# Altium schematic symbol library sch.SchLib: 75 symbols
Pins are listed as number, name and electrical type; pins without a type are passive.

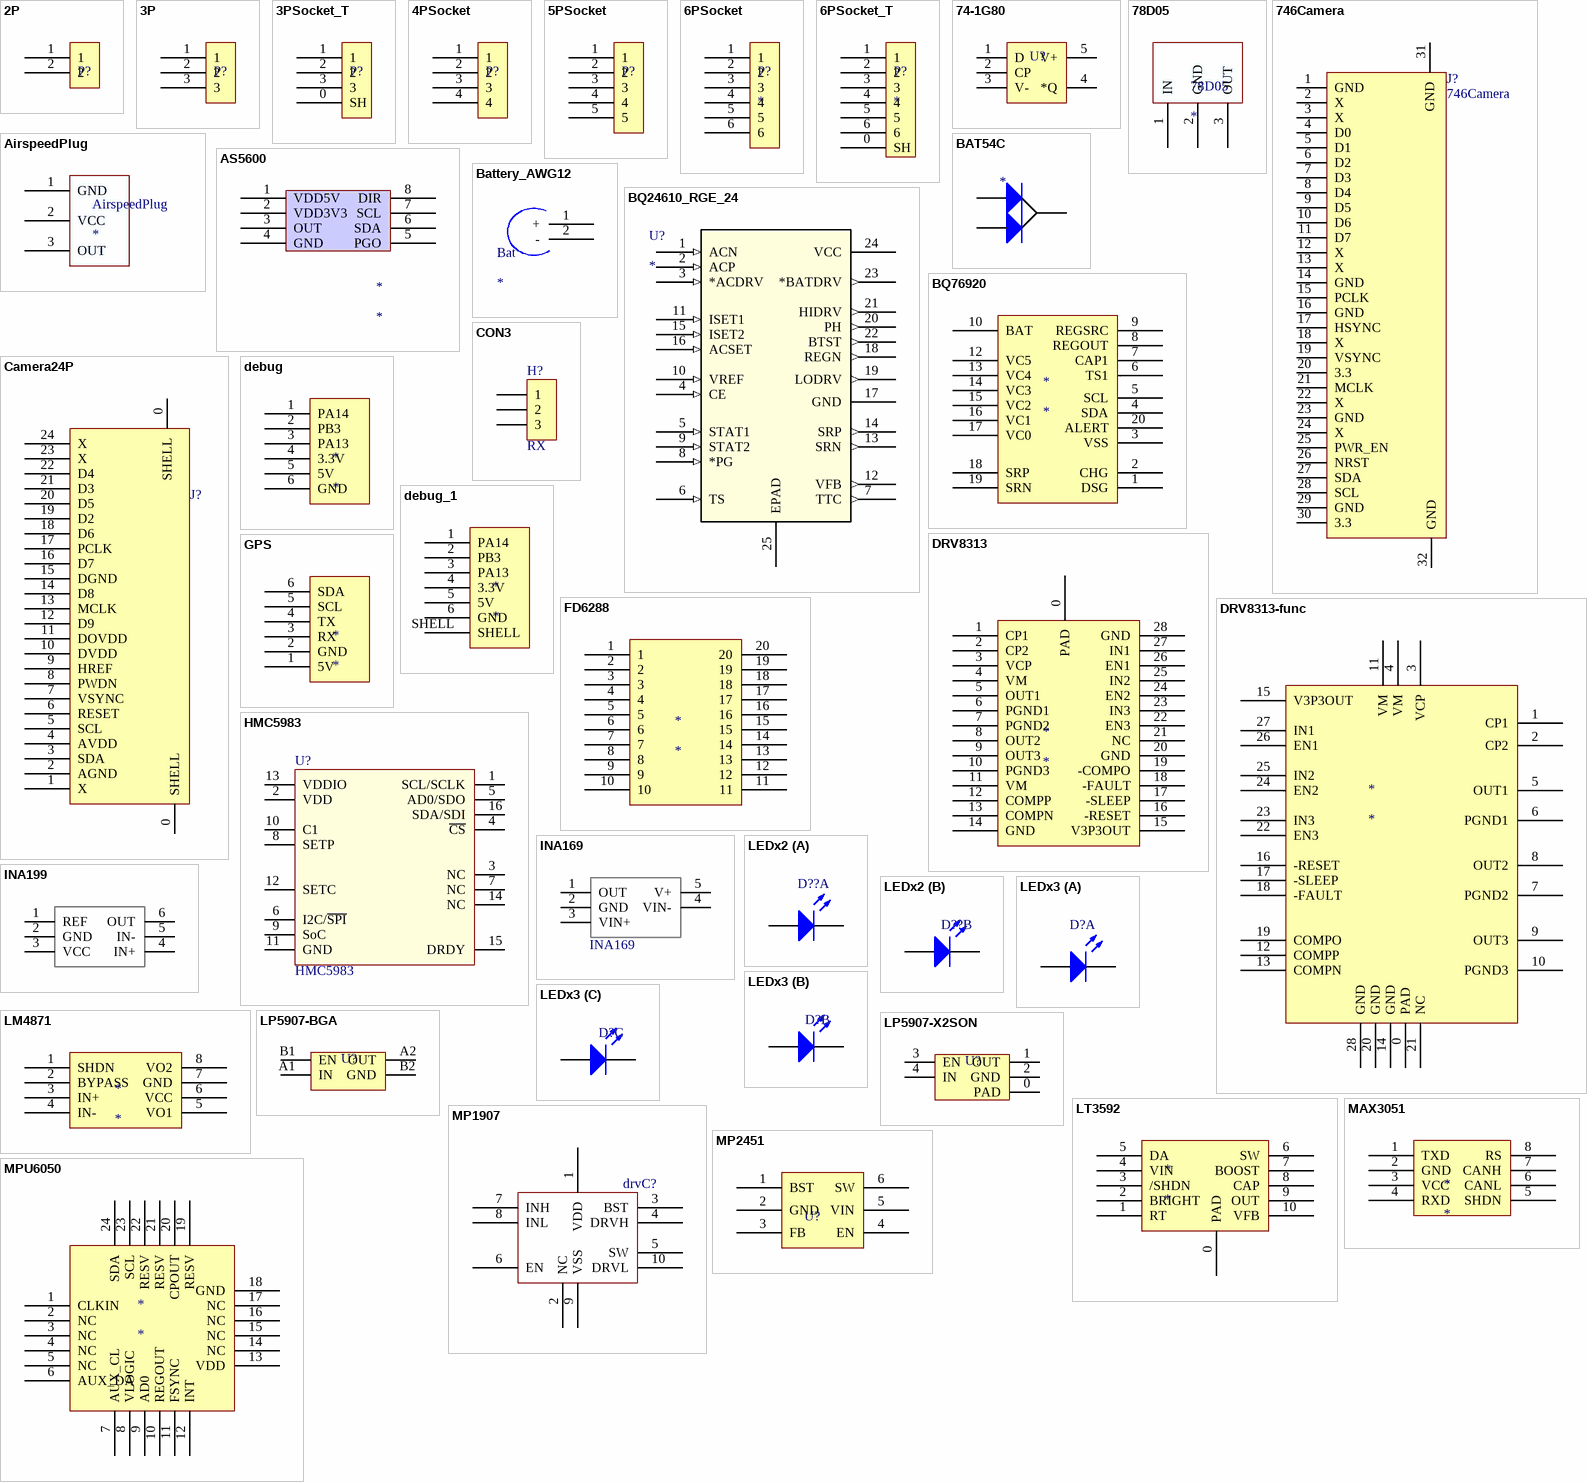
[diagram p0: symbols 2P to MPU6050]

## 2P
designator P?  (value not drawn)
footprint 2P
pins: 1, 2

## 3P
designator P?  (value not drawn)
footprint WFRSM125 - 3P
pins: 1, 2, 3

## 3PSocket_T
designator P?  (value not drawn)
footprint WFRSM125 - 3P
pins: 0 SH, 1, 2, 3

## 4PSocket
designator P?  (value not drawn)
footprint 4pSocket
pins: 1, 2, 3, 4

## 5PSocket
designator P?  (value not drawn)
footprint 5PSocket
pins: 1, 2, 3, 4, 5

## 6PSocket
designator P?
footprint 6PSocket
pins: 1, 2, 3, 4, 5, 6

## 6PSocket_T
designator P?
footprint WFRSM125 - 6P
pins: 0 SH, 1, 2, 3, 4, 5, 6

## 74-1G80
designator U?  (value not drawn)
footprint SOT23-5 (Footprint not found)
pins: 1 D, 2 CP, 3 V-, 4 *Q, 5 V+

## 78D05
designator 78D05
footprint TO-252-2L
pins: 1 IN, 2 GND, 3 OUT

## 746Camera
designator J?
footprint FFC/SM0.5-2H30
pins: 1 GND, 2 X, 3 X, 4 D0, 5 D1, 6 D2, 7 D3, 8 D4, 9 D5, 10 D6, 11 D7, 12 X, 13 X, 14 GND, 15 PCLK, 16 GND, 17 HSYNC, 18 X, 19 VSYNC, 20 3.3, 21 MCLK, 22 X, 23 GND, 24 X, 25 PWR_EN, 26 NRST, 27 SDA, 28 SCL, 29 GND, 30 3.3, 31 GND, 32 GND

## AirspeedPlug
designator AirspeedPlug
footprint ServoConnector
pins: 1 GND, 2 VCC, 3 OUT

## AS5600
designator *
footprint SOIC8_39MM
pins: 1 VDD5V, 2 VDD3V3, 3 OUT, 4 GND, 5 PGO, 6 SDA, 7 SCL, 8 DIR

## BAT54C
designator *  (value not drawn)
footprint SOT-23B_L (SOT23, 3-Leads, Body 2.9x1.3mm, Pitch 0.95mm, Lead Span 2.4mm, IPC High Density)
pins: 1 A, 2 A, 3 K

## Battery_AWG12
designator Bat
footprint Battery_AWG12
pins: 1 +, 2 -

## BQ24610_RGE_24
designator U?
Imported; Manufacturer: Texas Instruments; GENERIC_PART_NUMBER: BQ24610; INDUSTRY_STD_PKG_TYPE: VQFN; FAMILY_NAME: BATTERY CHARGE MANAGEMENT; PIN_COUNT: 24; PACKAGE_DESIGNATOR: RGE; Datasheet URL: http://www.ti.com/lit/gpn/BQ24610; RefDes: RefDes; Type: DEV; Value: Value
footprint BQ24610
pins: 1 ACN (in), 2 ACP (in), 3 *ACDRV (in), 4 CE (in), 5 STAT1 (in), 6 TS (in), 7 TTC (out), 8 *PG (in), 9 STAT2 (in), 10 VREF (in), 11 ISET1 (in), 12 VFB (out), 13 SRN (out), 14 SRP (out), 15 ISET2 (in), 16 ACSET (in), 17 GND (power), 18 REGN (out), 19 LODRV (out), 20 PH (out), 21 HIDRV (out), 22 BTST (out), 23 *BATDRV (out), 24 VCC (power), 25 EPAD (power)

## BQ76920
designator *
footprint TSSOP20
pins: 1 DSG, 2 CHG, 3 VSS, 4 SDA, 5 SCL, 6 TS1, 7 CAP1, 8 REGOUT, 9 REGSRC, 10 BAT, 12 VC5, 13 VC4, 14 VC3, 15 VC2, 16 VC1, 17 VC0, 18 SRP, 19 SRN, 20 ALERT

## Camera24P
designator J?
footprint FFC/SM0.5-2H24
pins: 0 SHELL, 0 SHELL, 1 X, 2 AGND, 3 SDA, 4 AVDD, 5 SCL, 6 RESET, 7 VSYNC, 8 PWDN, 9 HREF, 10 DVDD, 11 DOVDD, 12 D9, 13 MCLK, 14 D8, 15 DGND, 16 D7, 17 PCLK, 18 D6, 19 D2, 20 D5, 21 D3, 22 D4, 23 X, 24 X

## CON3
designator H?, comment RX
Connector
footprint MotorConnector2.5mm*3
pins: 1, 2, 3

## debug
designator *
footprint WFRSM125
pins: 1 PA14, 2 PB3, 3 PA13, 4 3.3V, 5 5V, 6 GND

## debug_1
designator *
footprint WFRSM125
pins: 1 PA14, 2 PB3, 3 PA13, 4 3.3V, 5 5V, 6 GND, SHELL

## DRV8313
designator *
footprint DRV8313
pins: 0 PAD, 1 CP1, 2 CP2, 3 VCP, 4 VM, 5 OUT1, 6 PGND1, 7 PGND2, 8 OUT2, 9 OUT3, 10 PGND3, 11 VM, 12 COMPP, 13 COMPN, 14 GND, 15 V3P3OUT, 16 -RESET, 17 -SLEEP, 18 -FAULT, 19 -COMPO, 20 GND, 21 NC, 22 EN3, 23 IN3, 24 EN2, 25 IN2, 26 EN1, 27 IN1, 28 GND

## DRV8313-func
designator *
footprint DRV8313
pins: 0 PAD, 1 CP1, 2 CP2, 3 VCP, 4 VM, 5 OUT1, 6 PGND1, 7 PGND2, 8 OUT2, 9 OUT3, 10 PGND3, 11 VM, 12 COMPP, 13 COMPN, 14 GND, 15 V3P3OUT, 16 -RESET, 17 -SLEEP, 18 -FAULT, 19 COMPO, 20 GND, 21 NC, 22 EN3, 23 IN3, 24 EN2, 25 IN2, 26 EN1, 27 IN1, 28 GND

## FD6288
designator *
pins: 1, 2, 3, 4, 5, 6, 7, 8, 9, 10, 11, 12, 13, 14, 15, 16, 17, 18, 19, 20

## GPS
designator *
footprint WFRSM125
pins: 1 5V, 2 GND, 3 RX, 4 TX, 5 SCL, 6 SDA

## HMC5983
designator U?
HMC5983 LPCC-16 MEGA
footprint HMC5883-MAN
pins: 1 SCL/SCLK, 2 VDD, 3 NC, 4 ~{CS}, 5 AD0/SDO, 6 I2C/~{SPI}, 7 NC, 8 SETP, 9 SoC, 10 C1, 11 GND, 12 SETC, 13 VDDIO, 14 NC, 15 DRDY, 16 SDA/SDI

## INA169
designator U$?
footprint SOT23-5
pins: 1 OUT, 2 GND, 3 VIN+, 4 VIN-, 5 V+

## INA199
designator U?
footprint LC-SC-70-6(SOT-363)
pins: 1 REF, 2 GND, 3 VCC, 4 IN+, 5 IN-, 6 OUT

## LEDx2
designator D??  (value not drawn)
Typical RED GaAs LED; Published: 8-Jun-2000; LatestRevisionDate: 08-Jul-2005; LatestRevisionNote: Mech Layer 1 removed.; PackageReference: LED-1; Publisher: Altium Limited; PackageDescription: LED; 2 Leads
footprint LC-0603_Rx2
part A pins: 1 A, 3 K
part B pins: 2 A, 4 K

## LEDx3
designator D?  (value not drawn)
Typical RED GaAs LED; Published: 8-Jun-2000; LatestRevisionDate: 08-Jul-2005; LatestRevisionNote: Mech Layer 1 removed.; PackageReference: LED-1; Publisher: Altium Limited; PackageDescription: LED; 2 Leads
footprint LC-0603_Rx2
part A pins: 1 K, 2 A
part B pins: 2 A, 3 K
part C pins: 2 A, 4 K

## LM4871
designator *
footprint SOIC8_39MM
pins: 1 SHDN, 2 BYPASS, 3 IN+, 4 IN-, 5 VO1, 6 VCC, 7 GND, 8 VO2

## LP5907-BGA
designator U?  (value not drawn)
footprint DSBGA-4
pins: A1 IN, A2 OUT, B1 EN, B2 GND

## LP5907-X2SON
designator U?  (value not drawn)
footprint X2SON
pins: 0 PAD, 1 OUT, 2 GND, 3 EN, 4 IN

## LT3592
designator *
footprint LT3592
pins: 0 PAD, 1 RT, 2 BRIGHT, 3 /SHDN, 4 VIN, 5 DA, 6 SW, 7 BOOST, 8 CAP, 9 OUT, 10 VFB

## MAX3051
designator *
footprint SOT-8
pins: 1 TXD, 2 GND, 3 VCC, 4 RXD, 5 SHDN, 6 CANL, 7 CANH, 8 RS

## MP1907
designator drvC?  (value not drawn)
footprint MP1907
pins: 1 VDD, 2 NC, 3 BST, 4 DRVH, 5 SW, 6 EN, 7 INH, 8 INL, 9 VSS, 10 DRVL

## MP2451
designator U?  (value not drawn)
footprint SOT-23-6L
pins: 1 BST, 2 GND, 3 FB, 4 EN, 5 VIN, 6 SW

## MPU6050
designator *
footprint MPU6050-2
pins: 1 CLKIN, 2 NC, 3 NC, 4 NC, 5 NC, 6 AUX_DA, 7 AUX_CL, 8 VLOGIC, 9 AD0, 10 REGOUT, 11 FSYNC, 12 INT, 13 VDD, 14 NC, 15 NC, 16 NC, 17 NC, 18 GND, 19 RESV, 20 CPOUT, 21 RESV, 22 RESV, 23 SCL, 24 SDA

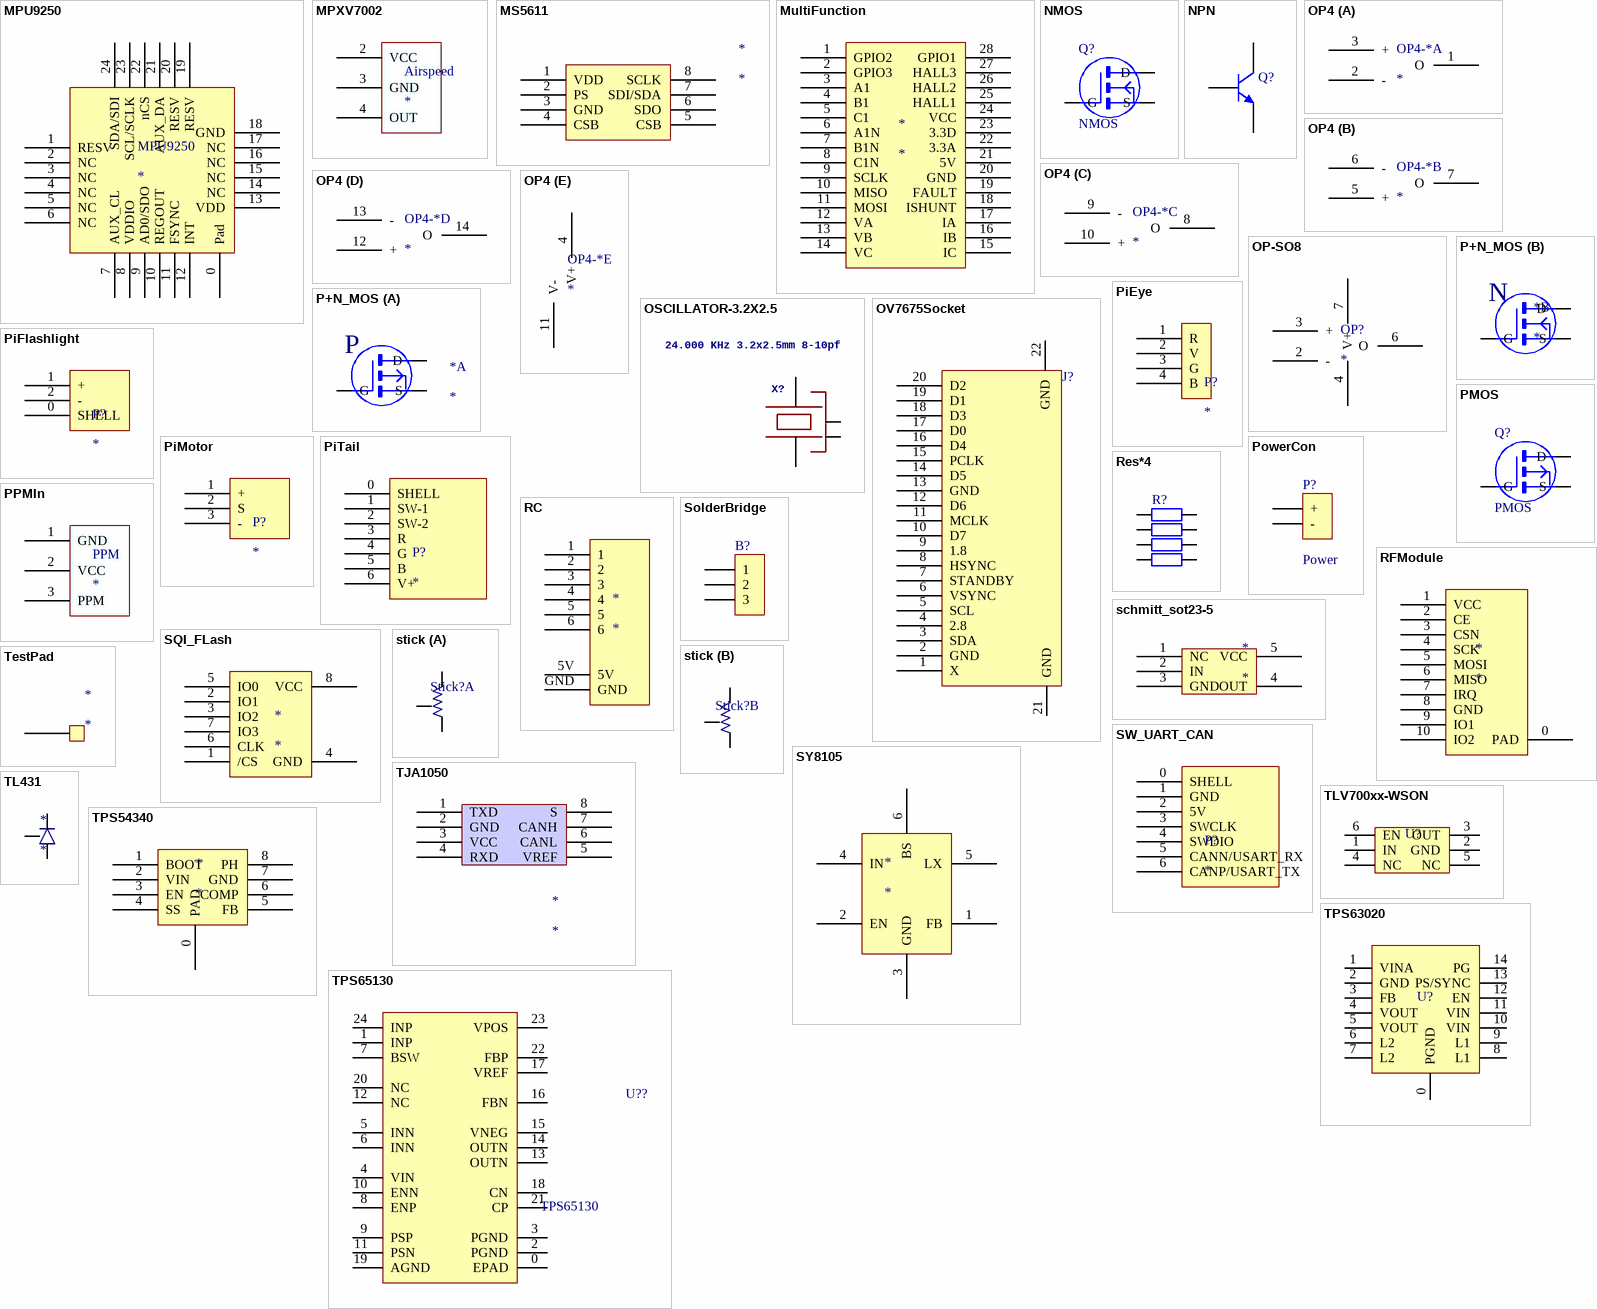
[diagram p1: symbols MPU9250 to TPS65130]

## MPU9250
designator MPU9250
footprint MPU9250
pins: 0 Pad, 1 RESV, 2 NC, 3 NC, 4 NC, 5 NC, 6 NC, 7 AUX_CL, 8 VDDIO, 9 AD0/SDO, 10 REGOUT, 11 FSYNC, 12 INT, 13 VDD, 14 NC, 15 NC, 16 NC, 17 NC, 18 GND, 19 RESV, 20 RESV, 21 AUX_DA, 22 nCS, 23 SCL/SCLK, 24 SDA/SDI

## MPXV7002
designator Airspeed
pins: 2 VCC, 3 GND, 4 OUT

## MS5611
designator *
footprint MS5611
pins: 1 VDD, 2 PS, 3 GND, 4 CSB, 5 CSB, 6 SDO, 7 SDI/SDA, 8 SCLK

## MultiFunction
designator *
footprint MultiFunction
pins: 1 GPIO2, 2 GPIO3, 3 A1, 4 B1, 5 C1, 6 A1N, 7 B1N, 8 C1N, 9 SCLK, 10 MISO, 11 MOSI, 12 VA, 13 VB, 14 VC, 15 IC, 16 IB, 17 IA, 18 ISHUNT, 19 FAULT, 20 GND, 21 5V, 22 3.3A, 23 3.3D, 24 VCC, 25 HALL1, 26 HALL2, 27 HALL3, 28 GPIO1

## NMOS
designator Q?
footprint IRFHM830PbF
footprint BSC025N03MS
footprint SOT-23B_L (SOT23, 3-Leads, Body 2.9x1.3mm, Pitch 0.95mm, Lead Span 2.4mm, IPC High Density); pin to pad D>3 G>1 S>2
pins: D, G, S

## NPN
designator Q?  (value not drawn)
NPN Bipolar Transistor; Published: 8-Jun-2000; LatestRevisionDate: 29-May-2009; LatestRevisionNote: IPC-7351 Footprint Added.; PackageVersion: Aug-1999; PackageReference: SOT-23B; Publisher: Altium Limited; PackageDescription: 3-Pin SOT-23 Package 0.95 mm Pitch, 2.4 mm Lead Span
footprint SOT-23B_L (SOT23, 3-Leads, Body 2.9x1.3mm, Pitch 0.95mm, Lead Span 2.4mm, IPC High Density)
pins: 1 B, 2 E, 3 C

## OP4
designator OP4-*
footprint SOP14
footprint TSSOP14_44MM_065P
part A pins: 1 O, 2 -, 3 +
part B pins: 5 +, 6 -, 7 O
part C pins: 8 O, 9 -, 10 +
part D pins: 12 +, 13 -, 14 O
part E pins: 4 V+, 11 V-

## OP-SO8
designator OP?
footprint D8
pins: 2 -, 3 +, 4 5, 6 O, 7 V+

## OSCILLATOR-3.2X2.5
designator X?, comment 24.000 KHz 3.2x2.5mm 8-10pf
Crystal Oscillator in 3.2x2.5 SMD
footprint OSCILLATOR-3.2X2.5
pins: 1, 2 NC_2 (oe), 3, 4 NC_4 (oe)

## OV7675Socket
designator J?  (value not drawn)
footprint FFC/SM0.5-2H20
pins: 1 X, 2 GND, 3 SDA, 4 2.8, 5 SCL, 6 VSYNC, 7 STANDBY, 8 HSYNC, 9 1.8, 10 D7, 11 MCLK, 12 D6, 13 GND, 14 D5, 15 PCLK, 16 D4, 17 D0, 18 D3, 19 D1, 20 D2, 21 GND, 22 GND

## P+N_MOS
designator *
footprint SOT23-6 (SOT23-5)
part A pins: 2 S, 3 G, 4 D
part B pins: 1 G, 5 S, 6 D
part A text: P
part B text: N

## PiEye
designator P?
footprint PiEyeLED
pins: 1 R, 2 V, 3 G, 4 B

## PiFlashlight
designator P?
footprint PiFlashLight
pins: 0 SHELL, 1 +, 2 -

## PiMotor
designator P?
footprint PiMotor
pins: 1 +, 2 S, 3 -

## PiTail
designator P?
footprint WFRSM125
footprint FPC-0.5mm-6
pins: 0 SHELL, 1 SW-1, 2 SW-2, 3 R, 4 G, 5 B, 6 V+

## PMOS
designator Q?
footprint SOT-23B_L (SOT23, 3-Leads, Body 2.9x1.3mm, Pitch 0.95mm, Lead Span 2.4mm, IPC High Density); pin to pad D>3 G>1 S>2
pins: D, G, S

## PowerCon
designator P?, comment Power
Connector
footprint Power
pins: 1 +, 2 -

## PPMIn
designator PPM
footprint ServoConnector
pins: 1 GND, 2 VCC, 3 PPM

## RC
designator *
footprint 6P
pins: 1, 2, 3, 4, 5, 5V, 6, GND

## Res*4
designator R?
Resistor; Value: 0Ohm; Published: 8-Jun-2000; LatestRevisionDate: 17-Jul-2002; LatestRevisionNote: Re-released for DXP Platform.; PackageReference: AXIAL-0.4; Publisher: Altium Limited; PackageDescription: Axial Device, Thru-Hole; 2 Leads; 0.4 in Pin Spacing
footprint 0402X4
pins: 1, 2, 3, 4, 5, 6, 7, 8

## RFModule
designator *
footprint RFModule
pins: 0 PAD, 1 VCC, 2 CE, 3 CSN, 4 SCK, 5 MOSI, 6 MISO, 7 IRQ, 8 GND, 9 IO1, 10 IO2

## schmitt_sot23-5
designator *
footprint SOT23-5
pins: 1 NC, 2 IN, 3 GND, 4 OUT, 5 VCC

## SolderBridge
designator B?, comment RX  (value not drawn)
Connector
footprint SolderBridge60mil
pins: 1, 2, 3

## SQI_FLash
designator *
footprint SO8-208mil
pins: 1 /CS, 2 IO1, 3 IO2, 4 GND, 5 IO0, 6 CLK, 7 IO3, 8 VCC

## stick
designator Stick?  (value not drawn)
footprint stick
part A pins: 1, 2, 3
part B pins: 4, 5, 6

## SW_UART_CAN
designator P?
footprint WFRSM125
footprint FPC-0.5mm-6
pins: 0 SHELL, 1 GND, 2 5V, 3 SWCLK, 4 SWDIO, 5 CANN/USART_RX, 6 CANP/USART_TX

## SY8105
designator *
pins: 1 FB, 2 EN, 3 GND, 4 IN, 5 LX, 6 BS

## TestPad
designator *
footprint TestPad
pins: 1 3

## TJA1050
designator *
footprint SOIC8_39MM
pins: 1 TXD, 2 GND, 3 VCC, 4 RXD, 5 VREF, 6 CANL, 7 CANH, 8 S

## TL431
designator *
footprint SOT-23B_L (SOT23, 3-Leads, Body 2.9x1.3mm, Pitch 0.95mm, Lead Span 2.4mm, IPC High Density)
pins: 1 REF, 2 CATHODE , 3 ANODE

## TLV700xx-WSON
designator U?  (value not drawn)
footprint WSON
pins: 1 IN, 2 GND, 3 OUT, 4 NC, 5 NC, 6 EN

## TPS54340
designator *
footprint D8-Pad
pins: 0 PAD, 1 BOOT, 2 VIN, 3 EN, 4 SS, 5 FB, 6 COMP, 7 GND, 8 PH

## TPS63020
designator U?  (value not drawn)
footprint TPS63020
pins: 0 PGND, 1 VINA, 2 GND, 3 FB, 4 VOUT, 5 VOUT, 6 L2, 7 L2, 8 L1, 9 L1, 10 VIN, 11 VIN, 12 EN, 13 PS/SYNC, 14 PG

## TPS65130
designator U??
footprint TPS65130
pins: 0 EPAD, 1 INP, 2 PGND, 3 PGND, 4 VIN, 5 INN, 6 INN, 7 BSW, 8 ENP, 9 PSP, 10 ENN, 11 PSN, 12 NC, 13 OUTN, 14 OUTN, 15 VNEG, 16 FBN, 17 VREF, 18 CN, 19 AGND, 20 NC, 21 CP, 22 FBP, 23 VPOS, 24 INP

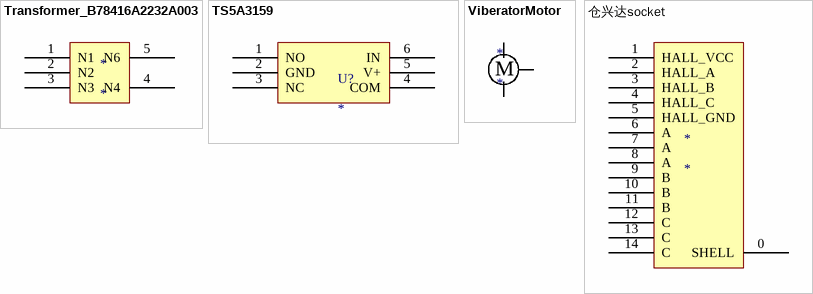
[diagram p2: symbols Transformer_B78416A2232A003 to 仓兴达socket]

## Transformer_B78416A2232A003
designator *
footprint Transformer_B78416A2232A003
footprint Transformer
pins: 1 N1, 2 N2, 3 N3, 4 N4, 5 N6

## TS5A3159
designator U?
footprint SOT23-6 (SOT23-5)
pins: 1 NO, 2 GND, 3 NC, 4 COM, 5 V+, 6 IN

## ViberatorMotor
designator *
footprint VibratorMotor
pins: 0, 1, 2
text: M

## 仓兴达socket
designator *
footprint FPC-0.5mm-14
pins: 0 SHELL, 1 HALL_VCC, 2 HALL_A, 3 HALL_B, 4 HALL_C, 5 HALL_GND, 6 A, 7 A, 8 A, 9 B, 10 B, 11 B, 12 C, 13 C, 14 C